# Altium footprint library QFN_Sq_65P_Side_M.PcbLib: 52 footprints (part 1 of 4)
Each footprint in its own frame and in the unit in brackets; x right, y up, seen from the top. Pads: shape width x height; smd on the part's side, far side on the other; paste and mask are expansions set on the pad; w line width, h text height; cw(c..) or ccw(c..) is an arc to the next point about the centre after c.
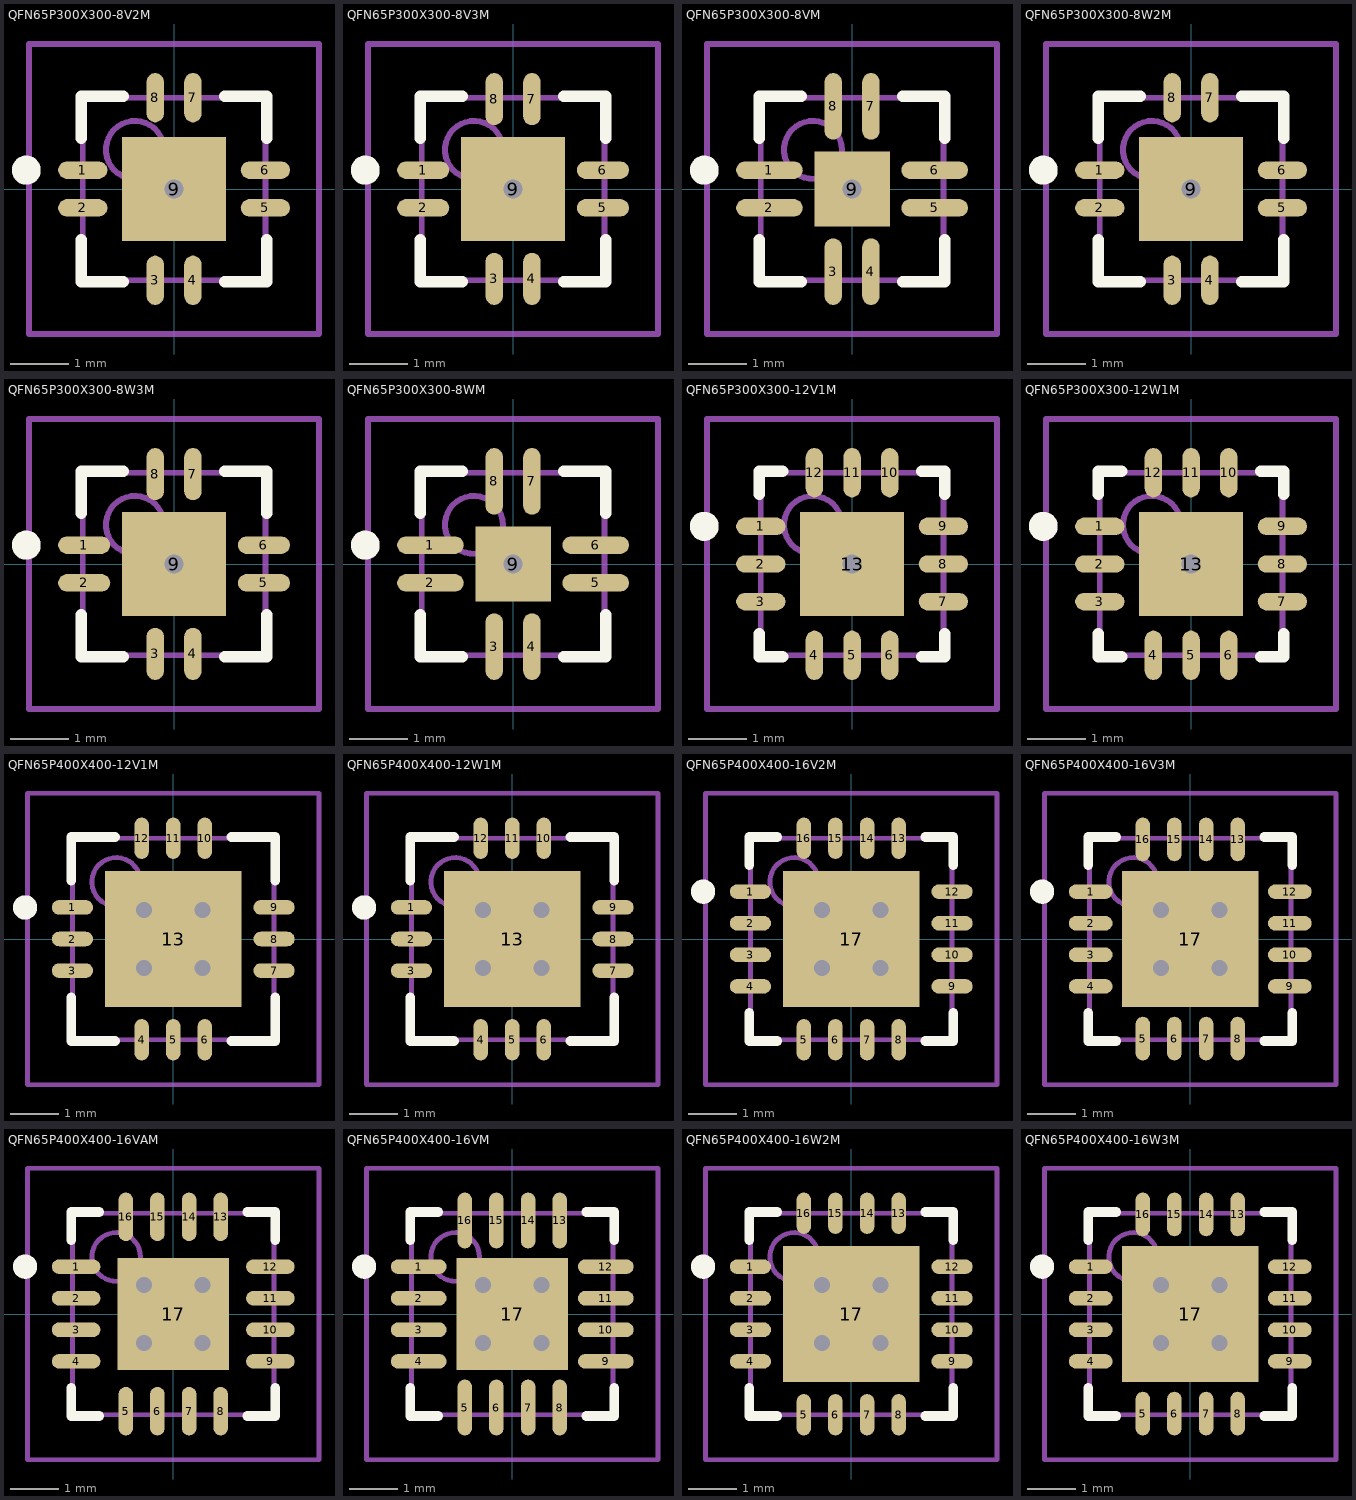
[diagram p0: the footprints below, top view; thin cyan lines are the x and y axes]

## QFN65P300X300-8V2M [mm] "QFN, 8-Leads, Body 3x3 mm, Pitch 0.65mm, IPC Low Density"
height 1
pads (9):
  oval 0.85x0.3 smd: 1(-1.575,0.325) 2(-1.575,-0.325) 5(1.575,-0.325) 6(1.575,0.325)
  oval 0.3x0.85 smd: 3(-0.325,-1.575) 4(0.325,-1.575) 7(0.325,1.575) 8(-0.325,1.575)
  rect 1.8x1.8 smd: 9(0,0)
via 0,0 diameter 0.66 hole 0.33
Top Overlay:
  circle w0.25: c-2.55,0.325 r0.125
  lines w0.2: -1.6,-0.875 -1.6,-1.6 -0.875,-1.6 ; -1.6,0.875 -1.6,1.6 -0.875,1.6 ; 0.875,-1.6 1.6,-1.6 1.6,-0.875 ; 0.875,1.6 1.6,1.6 1.6,0.875
Mechanical 13:
  circle w0.1: c-0.675,0.675 r0.5
  lines w0.1: -1.575,-1.575 -1.575,1.575 1.575,1.575 1.575,-1.575 -1.575,-1.575
Mechanical 15:
  lines w0.1: -0.5,0 0.5,0 ; 0,-0.5 0,0.5 ; -2.5,-2.5 -2.5,2.5 2.5,2.5 2.5,-2.5 -2.5,-2.5
3D body: height 1, standoff 0, extent -1.575,-1.575 1.575,1.575

## QFN65P300X300-8V3M [mm] "QFN, 8-Leads, Body 3x3 mm, Pitch 0.65mm, IPC Low Density"
height 1
pads (9):
  oval 0.9x0.3 smd: 1(-1.55,0.325) 2(-1.55,-0.325) 5(1.55,-0.325) 6(1.55,0.325)
  oval 0.3x0.9 smd: 3(-0.325,-1.55) 4(0.325,-1.55) 7(0.325,1.55) 8(-0.325,1.55)
  rect 1.8x1.8 smd: 9(0,0)
via 0,0 diameter 0.66 hole 0.33
Top Overlay:
  circle w0.25: c-2.55,0.325 r0.125
  lines w0.2: -1.6,-0.875 -1.6,-1.6 -0.875,-1.6 ; -1.6,0.875 -1.6,1.6 -0.875,1.6 ; 0.875,-1.6 1.6,-1.6 1.6,-0.875 ; 0.875,1.6 1.6,1.6 1.6,0.875
Mechanical 13:
  circle w0.1: c-0.675,0.675 r0.5
  lines w0.1: -1.575,-1.575 1.575,-1.575 1.575,1.575 -1.575,1.575 -1.575,-1.575
Mechanical 15:
  lines w0.1: -0.5,0 0.5,0 ; 0,-0.5 0,0.5 ; -2.5,-2.5 2.5,-2.5 2.5,2.5 -2.5,2.5 -2.5,-2.5
3D body: height 1, standoff 0, extent -1.575,-1.575 1.575,1.575

## QFN65P300X300-8VM [mm] "QFN, 8-Leads, Body 3x3 mm, Pitch 0.65mm, IPC Low Density"
height 1
pads (9):
  oval 1.15x0.3 smd: 1(-1.425,0.325) 2(-1.425,-0.325) 5(1.425,-0.325) 6(1.425,0.325)
  oval 0.3x1.15 smd: 3(-0.325,-1.425) 4(0.325,-1.425) 7(0.325,1.425) 8(-0.325,1.425)
  rect 1.3x1.3 smd: 9(0,0)
via 0,0 diameter 0.66 hole 0.33
Top Overlay:
  circle w0.25: c-2.55,0.325 r0.125
  lines w0.2: -1.6,-0.875 -1.6,-1.6 -0.875,-1.6 ; -1.6,0.875 -1.6,1.6 -0.875,1.6 ; 0.875,-1.6 1.6,-1.6 1.6,-0.875 ; 0.875,1.6 1.6,1.6 1.6,0.875
Mechanical 13:
  circle w0.1: c-0.675,0.675 r0.5
  lines w0.1: -1.575,-1.575 1.575,-1.575 1.575,1.575 -1.575,1.575 -1.575,-1.575
Mechanical 15:
  lines w0.1: -0.5,0 0.5,0 ; 0,-0.5 0,0.5 ; -2.5,-2.5 2.5,-2.5 2.5,2.5 -2.5,2.5 -2.5,-2.5
3D body: height 1, standoff 0, extent -1.575,-1.575 1.575,1.575

## QFN65P300X300-8W2M [mm] "QFN, 8-Leads, Body 3x3 mm, Pitch 0.65mm, IPC Low Density"
height 0.8
pads (9):
  oval 0.85x0.3 smd: 1(-1.575,0.325) 2(-1.575,-0.325) 5(1.575,-0.325) 6(1.575,0.325)
  oval 0.3x0.85 smd: 3(-0.325,-1.575) 4(0.325,-1.575) 7(0.325,1.575) 8(-0.325,1.575)
  rect 1.8x1.8 smd: 9(0,0)
via 0,0 diameter 0.66 hole 0.33
Top Overlay:
  circle w0.25: c-2.55,0.325 r0.125
  lines w0.2: -1.6,-0.875 -1.6,-1.6 -0.875,-1.6 ; -1.6,0.875 -1.6,1.6 -0.875,1.6 ; 0.875,-1.6 1.6,-1.6 1.6,-0.875 ; 0.875,1.6 1.6,1.6 1.6,0.875
Mechanical 13:
  circle w0.1: c-0.675,0.675 r0.5
  lines w0.1: -1.575,-1.575 1.575,-1.575 1.575,1.575 -1.575,1.575 -1.575,-1.575
Mechanical 15:
  lines w0.1: -0.5,0 0.5,0 ; 0,-0.5 0,0.5 ; -2.5,-2.5 2.5,-2.5 2.5,2.5 -2.5,2.5 -2.5,-2.5
3D body: height 0.8, standoff 0, extent -1.575,-1.575 1.575,1.575

## QFN65P300X300-8W3M [mm] "QFN, 8-Leads, Body 3x3 mm, Pitch 0.65mm, IPC Low Density"
height 0.8
pads (9):
  oval 0.9x0.3 smd: 1(-1.55,0.325) 2(-1.55,-0.325) 5(1.55,-0.325) 6(1.55,0.325)
  oval 0.3x0.9 smd: 3(-0.325,-1.55) 4(0.325,-1.55) 7(0.325,1.55) 8(-0.325,1.55)
  rect 1.8x1.8 smd: 9(0,0)
via 0,0 diameter 0.66 hole 0.33
Top Overlay:
  circle w0.25: c-2.55,0.325 r0.125
  lines w0.2: -1.6,-0.875 -1.6,-1.6 -0.875,-1.6 ; -1.6,0.875 -1.6,1.6 -0.875,1.6 ; 0.875,-1.6 1.6,-1.6 1.6,-0.875 ; 0.875,1.6 1.6,1.6 1.6,0.875
Mechanical 13:
  circle w0.1: c-0.675,0.675 r0.5
  lines w0.1: -1.575,-1.575 1.575,-1.575 1.575,1.575 -1.575,1.575 -1.575,-1.575
Mechanical 15:
  lines w0.1: -0.5,0 0.5,0 ; 0,-0.5 0,0.5 ; -2.5,-2.5 2.5,-2.5 2.5,2.5 -2.5,2.5 -2.5,-2.5
3D body: height 0.8, standoff 0, extent -1.575,-1.575 1.575,1.575

## QFN65P300X300-8WM [mm] "QFN, 8-Leads, Body 3x3 mm, Pitch 0.65mm, IPC Low Density"
height 0.8
pads (9):
  oval 1.15x0.3 smd: 1(-1.425,0.325) 2(-1.425,-0.325) 5(1.425,-0.325) 6(1.425,0.325)
  oval 0.3x1.15 smd: 3(-0.325,-1.425) 4(0.325,-1.425) 7(0.325,1.425) 8(-0.325,1.425)
  rect 1.3x1.3 smd: 9(0,0)
via 0,0 diameter 0.66 hole 0.33
Top Overlay:
  circle w0.25: c-2.55,0.325 r0.125
  lines w0.2: -1.6,-0.875 -1.6,-1.6 -0.875,-1.6 ; -1.6,0.875 -1.6,1.6 -0.875,1.6 ; 0.875,-1.6 1.6,-1.6 1.6,-0.875 ; 0.875,1.6 1.6,1.6 1.6,0.875
Mechanical 13:
  circle w0.1: c-0.675,0.675 r0.5
  lines w0.1: -1.575,-1.575 1.575,-1.575 1.575,1.575 -1.575,1.575 -1.575,-1.575
Mechanical 15:
  lines w0.1: -0.5,0 0.5,0 ; 0,-0.5 0,0.5 ; -2.5,-2.5 2.5,-2.5 2.5,2.5 -2.5,2.5 -2.5,-2.5
3D body: height 0.8, standoff 0, extent -1.575,-1.575 1.575,1.575

## QFN65P300X300-12V1M [mm] "QFN, 12-Leads, Body 3x3 mm, Pitch 0.65mm, IPC Low Density"
height 1
pads (13):
  oval 0.85x0.3 smd: 1(-1.575,0.65) 2(-1.575,0) 3(-1.575,-0.65) 7(1.575,-0.65) 8(1.575,0) 9(1.575,0.65)
  oval 0.3x0.85 smd: 4(-0.65,-1.575) 5(0,-1.575) 6(0.65,-1.575) 10(0.65,1.575) 11(0,1.575) 12(-0.65,1.575)
  rect 1.8x1.8 smd: 13(0,0)
via 0,0 diameter 0.66 hole 0.33
Top Overlay:
  circle w0.25: c-2.55,0.65 r0.125
  lines w0.2: -1.6,-1.2 -1.6,-1.6 -1.2,-1.6 ; -1.6,1.2 -1.6,1.6 -1.2,1.6 ; 1.2,-1.6 1.6,-1.6 1.6,-1.2 ; 1.2,1.6 1.6,1.6 1.6,1.2
Mechanical 13:
  circle w0.1: c-0.675,0.675 r0.5
  lines w0.1: -1.575,-1.575 1.575,-1.575 1.575,1.575 -1.575,1.575 -1.575,-1.575
Mechanical 15:
  lines w0.1: -0.5,0 0.5,0 ; 0,-0.5 0,0.5 ; -2.5,-2.5 2.5,-2.5 2.5,2.5 -2.5,2.5 -2.5,-2.5
3D body: height 1, standoff 0, extent -1.575,-1.575 1.575,1.575

## QFN65P300X300-12W1M [mm] "QFN, 12-Leads, Body 3x3 mm, Pitch 0.65mm, IPC Low Density"
height 0.8
pads (13):
  oval 0.85x0.3 smd: 1(-1.575,0.65) 2(-1.575,0) 3(-1.575,-0.65) 7(1.575,-0.65) 8(1.575,0) 9(1.575,0.65)
  oval 0.3x0.85 smd: 4(-0.65,-1.575) 5(0,-1.575) 6(0.65,-1.575) 10(0.65,1.575) 11(0,1.575) 12(-0.65,1.575)
  rect 1.8x1.8 smd: 13(0,0)
via 0,0 diameter 0.66 hole 0.33
Top Overlay:
  circle w0.25: c-2.55,0.65 r0.125
  lines w0.2: -1.6,-1.2 -1.6,-1.6 -1.2,-1.6 ; -1.6,1.2 -1.6,1.6 -1.2,1.6 ; 1.2,-1.6 1.6,-1.6 1.6,-1.2 ; 1.2,1.6 1.6,1.6 1.6,1.2
Mechanical 13:
  circle w0.1: c-0.675,0.675 r0.5
  lines w0.1: -1.575,-1.575 -1.575,1.575 1.575,1.575 1.575,-1.575 -1.575,-1.575
Mechanical 15:
  lines w0.1: -0.5,0 0.5,0 ; 0,-0.5 0,0.5 ; -2.5,-2.5 -2.5,2.5 2.5,2.5 2.5,-2.5 -2.5,-2.5
3D body: height 0.8, standoff 0, extent -1.575,-1.575 1.575,1.575

## QFN65P400X400-12V1M [mm] "QFN, 12-Leads, Body 4x4 mm, Pitch 0.65mm, IPC Low Density"
height 1
pads (13):
  oval 0.85x0.3 smd: 1(-2.075,0.65) 2(-2.075,0) 3(-2.075,-0.65) 7(2.075,-0.65) 8(2.075,0) 9(2.075,0.65)
  oval 0.3x0.85 smd: 4(-0.65,-2.075) 5(0,-2.075) 6(0.65,-2.075) 10(0.65,2.075) 11(0,2.075) 12(-0.65,2.075)
  rect 2.8x2.8 smd: 13(0,0)
via 0.6,-0.6 diameter 0.66 hole 0.33
via -0.6,-0.6 diameter 0.66 hole 0.33
via 0.6,0.6 diameter 0.66 hole 0.33
via -0.6,0.6 diameter 0.66 hole 0.33
Top Overlay:
  circle w0.25: c-3.05,0.65 r0.125
  lines w0.2: -2.1,-1.2 -2.1,-2.1 -1.2,-2.1 ; -2.1,1.2 -2.1,2.1 -1.2,2.1 ; 1.2,-2.1 2.1,-2.1 2.1,-1.2 ; 1.2,2.1 2.1,2.1 2.1,1.2
Mechanical 13:
  circle w0.1: c-1.175,1.175 r0.5
  lines w0.1: -2.075,-2.075 2.075,-2.075 2.075,2.075 -2.075,2.075 -2.075,-2.075
Mechanical 15:
  lines w0.1: -0.5,0 0.5,0 ; 0,-0.5 0,0.5 ; -3,-3 3,-3 3,3 -3,3 -3,-3
3D body: height 1, standoff 0, extent -2.075,-2.075 2.075,2.075

## QFN65P400X400-12W1M [mm] "QFN, 12-Leads, Body 4x4 mm, Pitch 0.65mm, IPC Low Density"
height 0.8
pads (13):
  oval 0.85x0.3 smd: 1(-2.075,0.65) 2(-2.075,0) 3(-2.075,-0.65) 7(2.075,-0.65) 8(2.075,0) 9(2.075,0.65)
  oval 0.3x0.85 smd: 4(-0.65,-2.075) 5(0,-2.075) 6(0.65,-2.075) 10(0.65,2.075) 11(0,2.075) 12(-0.65,2.075)
  rect 2.8x2.8 smd: 13(0,0)
via -0.6,0.6 diameter 0.66 hole 0.33
via 0.6,0.6 diameter 0.66 hole 0.33
via -0.6,-0.6 diameter 0.66 hole 0.33
via 0.6,-0.6 diameter 0.66 hole 0.33
Top Overlay:
  circle w0.25: c-3.05,0.65 r0.125
  lines w0.2: -2.1,-1.2 -2.1,-2.1 -1.2,-2.1 ; -2.1,1.2 -2.1,2.1 -1.2,2.1 ; 1.2,-2.1 2.1,-2.1 2.1,-1.2 ; 1.2,2.1 2.1,2.1 2.1,1.2
Mechanical 13:
  circle w0.1: c-1.175,1.175 r0.5
  lines w0.1: -2.075,-2.075 -2.075,2.075 2.075,2.075 2.075,-2.075 -2.075,-2.075
Mechanical 15:
  lines w0.1: -0.5,0 0.5,0 ; 0,-0.5 0,0.5 ; -3,-3 -3,3 3,3 3,-3 -3,-3
3D body: height 0.8, standoff 0, extent -2.075,-2.075 2.075,2.075

## QFN65P400X400-16V2M [mm] "QFN, 16-Leads, Body 4x4 mm, Pitch 0.65mm, IPC Low Density"
height 1
pads (17):
  oval 0.85x0.3 smd: 1(-2.075,0.975) 2(-2.075,0.325) 3(-2.075,-0.325) 4(-2.075,-0.975) 9(2.075,-0.975) 10(2.075,-0.325) 11(2.075,0.325) 12(2.075,0.975)
  oval 0.3x0.85 smd: 5(-0.975,-2.075) 6(-0.325,-2.075) 7(0.325,-2.075) 8(0.975,-2.075) 13(0.975,2.075) 14(0.325,2.075) 15(-0.325,2.075) 16(-0.975,2.075)
  rect 2.8x2.8 smd: 17(0,0)
via 0.6,-0.6 diameter 0.66 hole 0.33
via -0.6,-0.6 diameter 0.66 hole 0.33
via 0.6,0.6 diameter 0.66 hole 0.33
via -0.6,0.6 diameter 0.66 hole 0.33
Top Overlay:
  circle w0.25: c-3.05,0.975 r0.125
  lines w0.2: -2.1,-1.525 -2.1,-2.1 -1.525,-2.1 ; -2.1,1.525 -2.1,2.1 -1.525,2.1 ; 1.525,-2.1 2.1,-2.1 2.1,-1.525 ; 1.525,2.1 2.1,2.1 2.1,1.525
Mechanical 13:
  circle w0.1: c-1.175,1.175 r0.5
  lines w0.1: -2.075,-2.075 2.075,-2.075 2.075,2.075 -2.075,2.075 -2.075,-2.075
Mechanical 15:
  lines w0.1: -0.5,0 0.5,0 ; 0,-0.5 0,0.5 ; -3,-3 3,-3 3,3 -3,3 -3,-3
3D body: height 1, standoff 0, extent -2.075,-2.075 2.075,2.075

## QFN65P400X400-16V3M [mm] "QFN, 16-Leads, Body 4x4 mm, Pitch 0.65mm, IPC Low Density"
height 1
pads (17):
  oval 0.9x0.3 smd: 1(-2.05,0.975) 2(-2.05,0.325) 3(-2.05,-0.325) 4(-2.05,-0.975) 9(2.05,-0.975) 10(2.05,-0.325) 11(2.05,0.325) 12(2.05,0.975)
  oval 0.3x0.9 smd: 5(-0.975,-2.05) 6(-0.325,-2.05) 7(0.325,-2.05) 8(0.975,-2.05) 13(0.975,2.05) 14(0.325,2.05) 15(-0.325,2.05) 16(-0.975,2.05)
  rect 2.8x2.8 smd: 17(0,0)
via 0.6,-0.6 diameter 0.66 hole 0.33
via -0.6,-0.6 diameter 0.66 hole 0.33
via 0.6,0.6 diameter 0.66 hole 0.33
via -0.6,0.6 diameter 0.66 hole 0.33
Top Overlay:
  circle w0.25: c-3.05,0.975 r0.125
  lines w0.2: -2.1,-1.525 -2.1,-2.1 -1.525,-2.1 ; -2.1,1.525 -2.1,2.1 -1.525,2.1 ; 1.525,-2.1 2.1,-2.1 2.1,-1.525 ; 1.525,2.1 2.1,2.1 2.1,1.525
Mechanical 13:
  circle w0.1: c-1.175,1.175 r0.5
  lines w0.1: -2.075,-2.075 2.075,-2.075 2.075,2.075 -2.075,2.075 -2.075,-2.075
Mechanical 15:
  lines w0.1: -0.5,0 0.5,0 ; 0,-0.5 0,0.5 ; -3,-3 3,-3 3,3 -3,3 -3,-3
3D body: height 1, standoff 0, extent -2.075,-2.075 2.075,2.075

## QFN65P400X400-16VAM [mm] "16-Pin Plastic Quad Flat No-Lead 0.65 mm Pitch"
height 1
pads (17):
  oval 1x0.3 smd: 1(-2,0.975) 2(-2,0.325) 3(-2,-0.325) 4(-2,-0.975) 9(2,-0.975) 10(2,-0.325) 11(2,0.325) 12(2,0.975)
  oval 0.3x1 smd: 5(-0.975,-2) 6(-0.325,-2) 7(0.325,-2) 8(0.975,-2) 13(0.975,2) 14(0.325,2) 15(-0.325,2) 16(-0.975,2)
  rect 2.3x2.3 smd: 17(0,0)
via -0.6,0.6 diameter 0.66 hole 0.33
via 0.6,0.6 diameter 0.66 hole 0.33
via -0.6,-0.6 diameter 0.66 hole 0.33
via 0.6,-0.6 diameter 0.66 hole 0.33
Top Overlay:
  circle w0.25: c-3.05,0.975 r0.125
  lines w0.2: -2.1,-1.525 -2.1,-2.1 -1.525,-2.1 ; -2.1,1.525 -2.1,2.1 -1.525,2.1 ; 1.525,-2.1 2.1,-2.1 2.1,-1.525 ; 1.525,2.1 2.1,2.1 2.1,1.525
Mechanical 13:
  circle w0.1: c-1.175,1.175 r0.5
  lines w0.1: -2.075,-2.075 -2.075,2.075 2.075,2.075 2.075,-2.075 -2.075,-2.075
Mechanical 15:
  lines w0.1: -0.5,0 0.5,0 ; 0,-0.5 0,0.5 ; -3,-3 -3,3 3,3 3,-3 -3,-3
3D body: height 1, standoff 0, extent -2.075,-2.075 2.075,2.075

## QFN65P400X400-16VM [mm] "QFN, 16-Leads, Body 4x4 mm, Pitch 0.65mm, IPC Low Density"
height 1
pads (17):
  oval 1.15x0.3 smd: 1(-1.925,0.975) 2(-1.925,0.325) 3(-1.925,-0.325) 4(-1.925,-0.975) 9(1.925,-0.975) 10(1.925,-0.325) 11(1.925,0.325) 12(1.925,0.975)
  oval 0.3x1.15 smd: 5(-0.975,-1.925) 6(-0.325,-1.925) 7(0.325,-1.925) 8(0.975,-1.925) 13(0.975,1.925) 14(0.325,1.925) 15(-0.325,1.925) 16(-0.975,1.925)
  rect 2.3x2.3 smd: 17(0,0)
via 0.6,-0.6 diameter 0.66 hole 0.33
via -0.6,-0.6 diameter 0.66 hole 0.33
via 0.6,0.6 diameter 0.66 hole 0.33
via -0.6,0.6 diameter 0.66 hole 0.33
Top Overlay:
  circle w0.25: c-3.05,0.975 r0.125
  lines w0.2: -2.1,-1.525 -2.1,-2.1 -1.525,-2.1 ; -2.1,1.525 -2.1,2.1 -1.525,2.1 ; 1.525,-2.1 2.1,-2.1 2.1,-1.525 ; 1.525,2.1 2.1,2.1 2.1,1.525
Mechanical 13:
  circle w0.1: c-1.175,1.175 r0.5
  lines w0.1: -2.075,-2.075 2.075,-2.075 2.075,2.075 -2.075,2.075 -2.075,-2.075
Mechanical 15:
  lines w0.1: -0.5,0 0.5,0 ; 0,-0.5 0,0.5 ; -3,-3 3,-3 3,3 -3,3 -3,-3
3D body: height 1, standoff 0, extent -2.075,-2.075 2.075,2.075

## QFN65P400X400-16W2M [mm] "QFN, 16-Leads, Body 4x4 mm, Pitch 0.65mm, IPC Low Density"
height 0.8
pads (17):
  oval 0.85x0.3 smd: 1(-2.075,0.975) 2(-2.075,0.325) 3(-2.075,-0.325) 4(-2.075,-0.975) 9(2.075,-0.975) 10(2.075,-0.325) 11(2.075,0.325) 12(2.075,0.975)
  oval 0.3x0.85 smd: 5(-0.975,-2.075) 6(-0.325,-2.075) 7(0.325,-2.075) 8(0.975,-2.075) 13(0.975,2.075) 14(0.325,2.075) 15(-0.325,2.075) 16(-0.975,2.075)
  rect 2.8x2.8 smd: 17(0,0)
via 0.6,-0.6 diameter 0.66 hole 0.33
via -0.6,-0.6 diameter 0.66 hole 0.33
via 0.6,0.6 diameter 0.66 hole 0.33
via -0.6,0.6 diameter 0.66 hole 0.33
Top Overlay:
  circle w0.25: c-3.05,0.975 r0.125
  lines w0.2: -2.1,-1.525 -2.1,-2.1 -1.525,-2.1 ; -2.1,1.525 -2.1,2.1 -1.525,2.1 ; 1.525,-2.1 2.1,-2.1 2.1,-1.525 ; 1.525,2.1 2.1,2.1 2.1,1.525
Mechanical 13:
  circle w0.1: c-1.175,1.175 r0.5
  lines w0.1: -2.075,-2.075 2.075,-2.075 2.075,2.075 -2.075,2.075 -2.075,-2.075
Mechanical 15:
  lines w0.1: -0.5,0 0.5,0 ; 0,-0.5 0,0.5 ; -3,-3 3,-3 3,3 -3,3 -3,-3
3D body: height 0.8, standoff 0, extent -2.075,-2.075 2.075,2.075

## QFN65P400X400-16W3M [mm] "QFN, 16-Leads, Body 4x4 mm, Pitch 0.65mm, IPC Low Density"
height 0.8
pads (17):
  oval 0.9x0.3 smd: 1(-2.05,0.975) 2(-2.05,0.325) 3(-2.05,-0.325) 4(-2.05,-0.975) 9(2.05,-0.975) 10(2.05,-0.325) 11(2.05,0.325) 12(2.05,0.975)
  oval 0.3x0.9 smd: 5(-0.975,-2.05) 6(-0.325,-2.05) 7(0.325,-2.05) 8(0.975,-2.05) 13(0.975,2.05) 14(0.325,2.05) 15(-0.325,2.05) 16(-0.975,2.05)
  rect 2.8x2.8 smd: 17(0,0)
via 0.6,-0.6 diameter 0.66 hole 0.33
via -0.6,-0.6 diameter 0.66 hole 0.33
via 0.6,0.6 diameter 0.66 hole 0.33
via -0.6,0.6 diameter 0.66 hole 0.33
Top Overlay:
  circle w0.25: c-3.05,0.975 r0.125
  lines w0.2: -2.1,-1.525 -2.1,-2.1 -1.525,-2.1 ; -2.1,1.525 -2.1,2.1 -1.525,2.1 ; 1.525,-2.1 2.1,-2.1 2.1,-1.525 ; 1.525,2.1 2.1,2.1 2.1,1.525
Mechanical 13:
  circle w0.1: c-1.175,1.175 r0.5
  lines w0.1: -2.075,-2.075 2.075,-2.075 2.075,2.075 -2.075,2.075 -2.075,-2.075
Mechanical 15:
  lines w0.1: -0.5,0 0.5,0 ; 0,-0.5 0,0.5 ; -3,-3 3,-3 3,3 -3,3 -3,-3
3D body: height 0.8, standoff 0, extent -2.075,-2.075 2.075,2.075